# EAGLE library part MODULE_TTGO_T-DISPLAY (library TTGO T-Display)
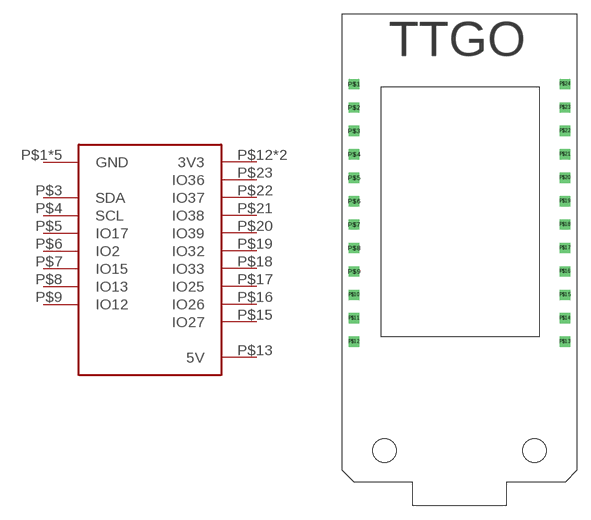
[diagram p0: symbol with the pads of MODULE_TTGO_T-DISPLAY; footprint MODULE_TTGO_T-DISPLAY]

Designator prefix -

## MODULE_TTGO_T-DISPLAY  [MODULE_TTGO_T-DISPLAY]
P$1  GND  pwr
P$2  GND  pwr
P$3  SDA
P$4  SCL
P$5  IO17
P$6  IO2
P$7  IO15
P$8  IO13
P$9  IO12
P$10  GND  pwr
P$11  GND  pwr
P$12  3V3  pwr
P$13  5V  pwr
P$14  GND  pwr
P$15  IO27
P$16  IO26
P$17  IO25
P$18  IO33
P$19  IO32
P$20  IO39
P$21  IO38
P$22  IO37
P$23  IO36
P$24  3V3  pwr

## Footprint MODULE_TTGO_T-DISPLAY (pad centres in mm)
drill 0.6 square: P$1 -11.43,13.97; P$2 -11.43,11.43; P$3 -11.43,8.89; P$4 -11.43,6.35; P$5 -11.43,3.81; P$6 -11.43,1.27; P$7 -11.43,-1.27; P$8 -11.43,-3.81; P$9 -11.43,-6.35; P$10 -11.43,-8.89; P$11 -11.43,-11.43; P$12 -11.43,-13.97; P$13 11.43,-13.97; P$14 11.43,-11.43; P$15 11.43,-8.89; P$16 11.43,-6.35; P$17 11.43,-3.81; P$18 11.43,-1.27; P$19 11.43,1.27; P$20 11.43,3.81; P$21 11.43,6.35; P$22 11.43,8.89; P$23 11.43,11.43; P$24 11.43,13.97